# Altium schematic symbol library Interruptores.SchLib: 2 symbols
Pins are listed as number, name and electrical type; pins without a type are passive.

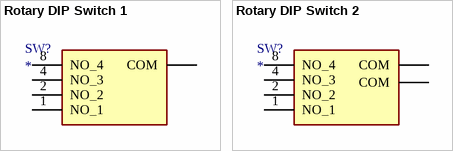
[diagram p0: symbols Rotary DIP Switch 1 to Rotary DIP Switch 2]

## Rotary DIP Switch 1
designator SW?
datasheet: https://www.mouser.es/datasheet/2/307/en-a6r_rv-1512364.pdf
footprint A6R101RS
pins: 1 NO_1, 2 NO_2, 4 NO_3, 8 NO_4, C COM

## Rotary DIP Switch 2
designator SW?
datasheet RDS-10S-74385-SMT: https://www.mouser.es/datasheet/2/670/rds_74385_smt-1916924.pdf; ComponentLink1Description: mouser RDS-10S-74385-SMT; ComponentLink1URL: https://www.mouser.es/ProductDetail/CUI-Devices/RDS-10S-74385-SMT?qs=zW32dvEIR3sfpstXH4BZkQ%3D%3D
footprint RDS-10S-74385-45A-SMT (cn vastago)
pins: 1 NO_1, 2 NO_2, 4 NO_3, 8 NO_4, C1 COM, C2 COM